# Altium schematic symbol library Logic Flip_Flops.SchLib: 1 symbol
Pins are listed as number, name and electrical type; pins without a type are passive.

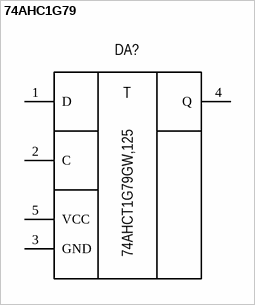
[diagram p0: symbol 74AHC1G79]

## 74AHC1G79
designator DA?, comment 74AHCT1G79GW,125
Flip-Flop D-type; Manufacturer: NXP; Group: Digital - Logic; Voltage supply: 4.5V - 5.5V; Elements: 1; Current output: 8mA; Clock frequency: 90MHz; Component: Flip Flop; Package: TSSOP-5; Part name: 74AHCT1G79GW,125; Height: 1.10mm; Operating temperature: -40°C ~ 125°C; Dimension: 3.10mm x 3.00mm; Type: D-Type; Current output total: 8mA; Mounting type: Surface mount
footprint SOT-353-1
pins: 1 D, 2 C, 3 GND (power), 4 Q, 5 VCC (power)
text: T